# Altium schematic symbol library Interface USB.SchLib: 91 symbols (part 3 of 12)
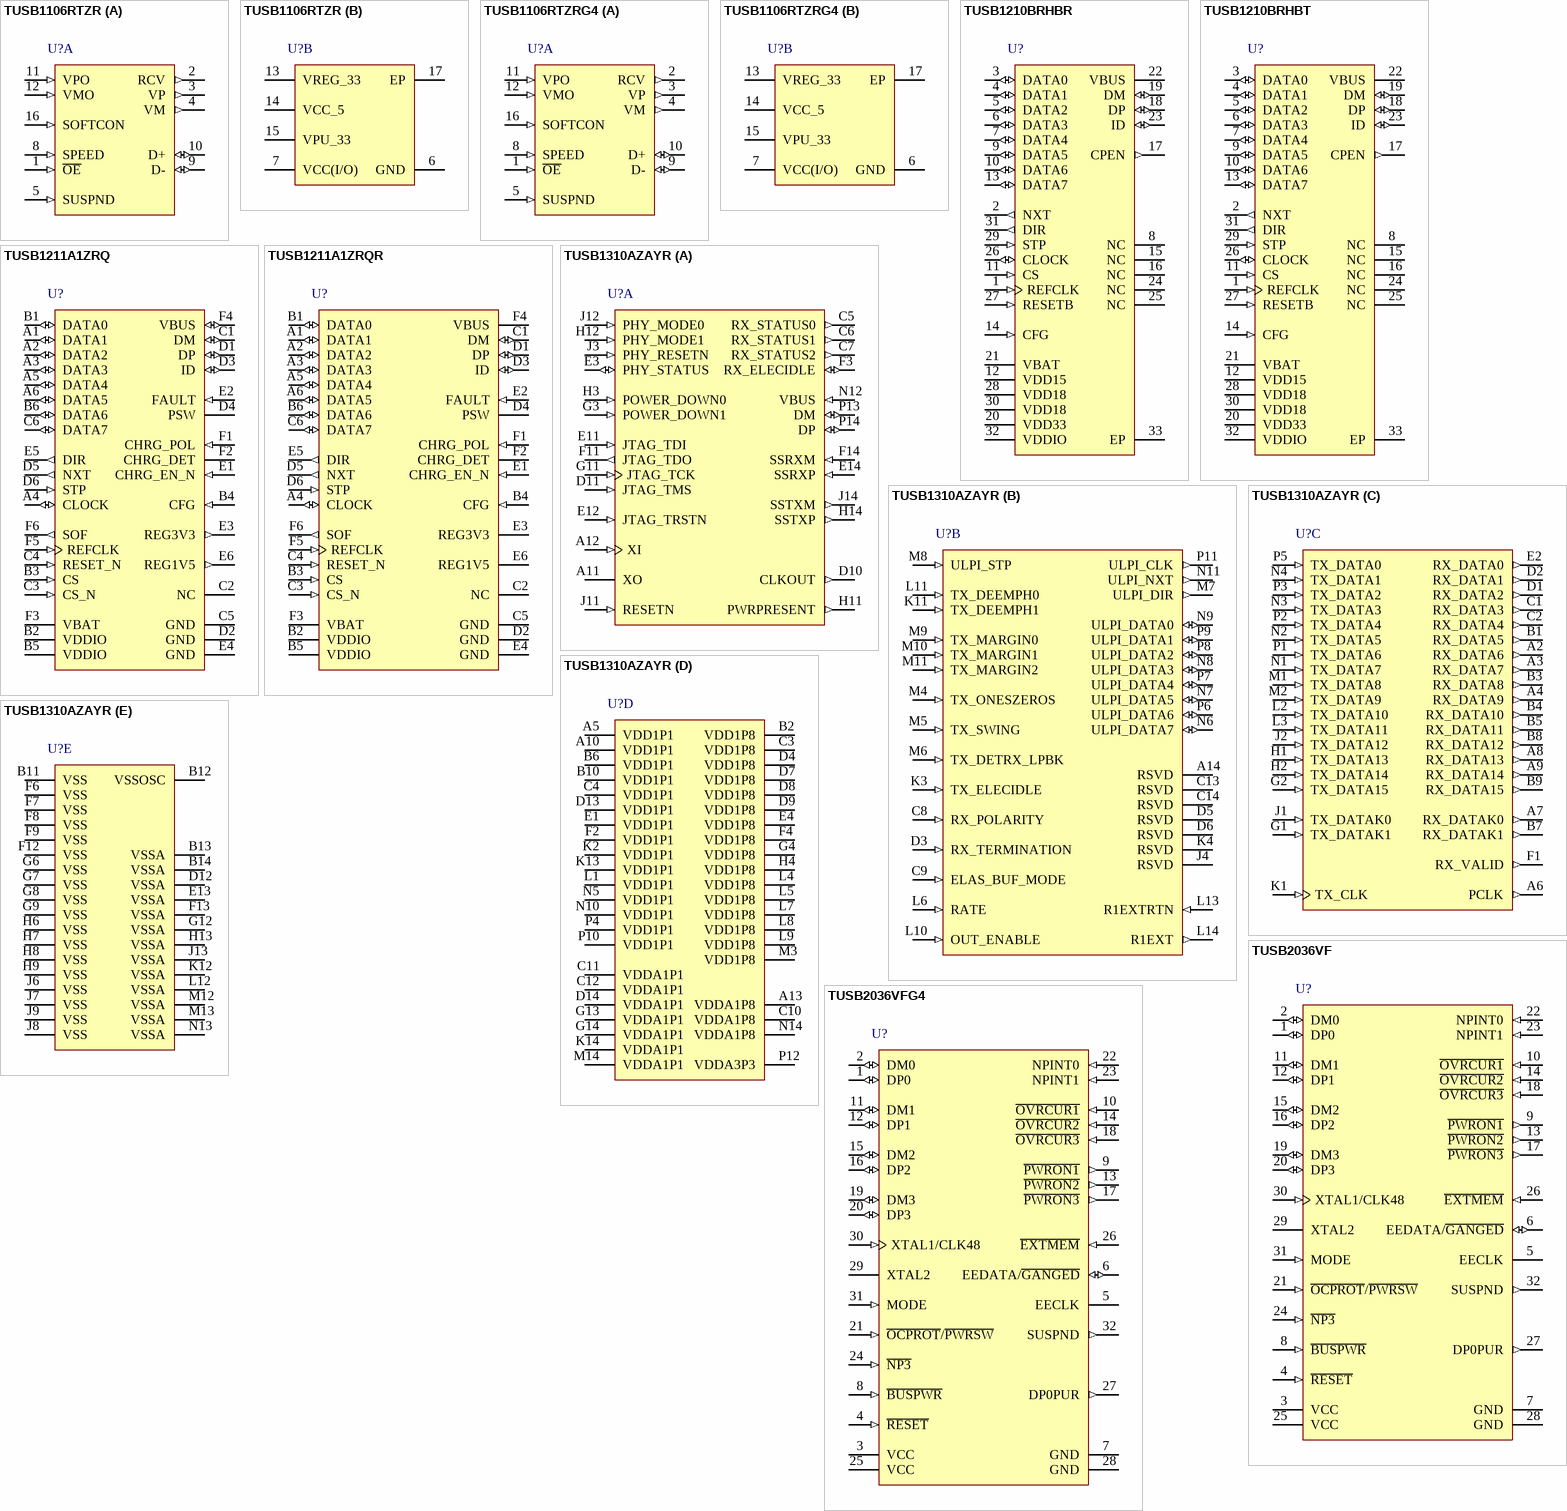
[diagram p10: symbols TUSB1106RTZR to TUSB2036VFG4]

## TUSB1310AZAYR
designator U?
SuperSpeed USB Transceiver with PIPE3 and ULPI Interfaces, SuperSpeed, PIPE3 and ULPI, +/-0.5V, -40 to 85 degC, 175-Pin NFBGA (ZAY), Green (RoHS & no Sb/Br); PartNumber: TUSB1310AZAYR; Manufacturer: Texas Instruments; ESD HBM(kV): +/-0.5; DatasheetVersion: SLLSE32D; PackageVersion: revC, Sep-2010; PackageReference: ZAY175; PackageDescription: 175-Ball Plastic Ball Grid Array, 12 x 12 mm Body, 0.8 mm Pitch, Pb-Free; Mounting Technology: Surface Mount; Eco-Plan: Green (RoHS & no Sb/Br); SubFamily: USB Transceiver; USB Speed: SuperSpeed; ComponentLink1Description: Datasheet; ComponentLink1URL: http://www.ti.com/general/docs/lit/getliterature.tsp?genericPartNumber=TUSB1310A&fileType=pdf; ComponentLink2Description: Package Specification; ComponentLink2URL: http://www.ti.com/lit/ml/mpbg948a/mpbg948a.pdf
footprint ZAY175 (BGA, 175-Leads, Body 12x12mm, Pitch 0.8mm)
part A pins: A11 XO "Crystal output. If a 1.8-V clock input is connected to XI, XO must be left open", A12 XI (in) "Crystal Input. This pin is the clock reference input for the TUSB1310A. The supports either a crystal unit, or a 1.8-V clock input. Frequencies supported are 20, 25, 30, or 40 MHz", C5 RX_STATUS0 (out) "Encodes receiver status and error codes for the received data stream when receiving data.[see datasheet]", C6 RX_STATUS1 (out) "Encodes receiver status and error codes for the received data stream when receiving data.[see datasheet]", C7 RX_STATUS2 (out) "Encodes receiver status and error codes for the received data stream when receiving data.[see datasheet]", D10 CLKOUT (out) "OOBCLK is driven in U3 mode", D11 JTAG_TMS (in) "JTAG test mode select", E3 PHY_STATUS (io) "Selects PIPE 0.  16-bit PIPE SDR mode.  Must be 0 at reset", E11 JTAG_TDI (in) "JTAG test data input", E12 JTAG_TRSTN (in) "JTAG test asynchronous reset. Active Low", E14 SSRXP (in) "USB SuperSpeed receiver differential pair", F3 RX_ELECIDLE (io) "Active High. While de-asserted with the PHY in P0, P1, P2, or P3, indicates detection of LFPS.", F11 JTAG_TDO (out) "JTAG test data output", F14 SSRXM (in) "USB SuperSpeed receiver differential pair", G3 POWER_DOWN1 (in) "Power up and down the transceiver power states.[see datasheet]", G11 JTAG_TCK (in) "JTAG test clock", H3 POWER_DOWN0 (in) "Power up and down the transceiver power states.[see datasheet]", H11 PWRPRESENT (out) "Indicates the presence of VBUS.", H12 PHY_MODE1 (in) "Must be set to 0. Operates as USB 3.0 transceiver.", H14 SSTXP (out) "USB SuperSpeed transmitter differential pair", J3 PHY_RESETN (in) "Active Low. Resets the transmitter and receiver. This signal is asynchronous.", J11 RESETN (in) "Active Low. Resets the transmitter and receiver. This signal is asynchronous", J12 PHY_MODE0 (in) "Must be set to 1. Operates as USB 3.0 transceiver.", J14 SSTXM (out) "USB SuperSpeed transmitter differential pair", N12 VBUS (in) "USB VBUS pin Connected through an external voltage divider", P13 DM (io) "USB non-SuperSpeed differential pair", P14 DP (io) "USB non-SuperSpeed differential pair"
part B pins: A14 RSVD "Must be left open", C8 RX_POLARITY (in) "Active High. Tells PHY to do a polarity inversion on the received data. Inverted data show up on RX_DATA15-0 within 20 PCLK clocks after RX_POLARITY is asserted. 0 PHY does no polarity inversion. 1 PHY does polarity (See Datasheet)", C9 ELAS_BUF_MODE (in) "Selects elasticity buffer operating mode.0 Nominal half full buffer mode.1 Nominal empty buffer mode", C13 RSVD "Must be left open.", C14 RSVD "Must be left open.", D3 RX_TERMINATION (in) "Controls presence of receiver terminations.0 Terminations removed.1 Terminations present", D5 RSVD "Must be left open.", D6 RSVD "Must be left open.", J4 RSVD "Must be left open.", K3 TX_ELECIDLE (in) "Active High. Forces TX output to electrical idle depending on the power state.", K4 RSVD "Must be left open.", K11 TX_DEEMPH1 (in) "Selects transmitter de-emphasis.When the MAC changes,the TUSB1310A starts to transmit with the new setting within 128ns.[see datasheet]", L6 RATE (in) "Controls the link signaling rate.The RATE is always 1.", L10 OUT_ENABLE (in) "Active High. This can be connected to a 1.8-V power on reset signal on the PCB in order to avoid static current and signal contention during power up. OUT_ENABLE I L10 0: Disable all driver outputs while IO powers are (See Datasheet)", L11 TX_DEEMPH0 (in) "Selects transmitter de-emphasis.When the MAC changes,the TUSB1310A starts to transmit with the new setting within 128ns.[see datasheet]", L13 R1EXTRTN (in) "R1 ground reference. This pin is not connected to board ground.", L14 R1EXT (out) "High precision  external resistor used for calibration. The R1 value shall be 10 kohm +/-1% accuracy", M4 TX_ONESZEROS (in) "Active High. Used only when transmitting USB compliance pat-terns CP7 or CP8. Causes the transmitter to transmit an alternating sequence of 50 - 250 ones and 50 - 250 zeros -regardless of the state of the TX_DATA interface.", M5 TX_SWING (in) "Controls transmitter voltage swing level.0 Full swing.1 Half swing.", M6 TX_DETRX_LPBK (in) "Active High. Used to tell the PHY to begin a receiver detection operation or to begin loopback.", M7 ULPI_DIR (out) "Controls the direction of the ULPI_DATA bus.0 ULPI_DATA lines are inputs.1 ULPI_DATA lines are outputs", M8 ULPI_STP (in) "Active High. The Link must assert ULPI_STP to signal the end of a USB transmit packet or a register write operation. The ULPI_STP signal must be asserted in the cycle after the last data byte is presented on the bus. The (See Datasheet)", M9 TX_MARGIN0 (in) "Selects transmitter voltage levels [see datasheet ]", M10 TX_MARGIN1 (in) "Selects transmitter voltage levels [see datasheet ]", M11 TX_MARGIN2 (in) "Selects transmitter voltage levels [see datasheet ]", N6 ULPI_DATA7 (io) "Data bus. Driven to 00h by the Link when the ULPI bus is idle.8-bit data timed on rising edge of ULPI_CLK", N7 ULPI_DATA5 (io) "Data bus. Driven to 00h by the Link when the ULPI bus is idle.8-bit data timed on rising edge of ULPI_CLK", N8 ULPI_DATA3 (io) "Data bus. Driven to 00h by the Link when the ULPI bus is idle.8-bit data timed on rising edge of ULPI_CLK", N9 ULPI_DATA0 (io) "Data bus. Driven to 00h by the Link when the ULPI bus is idle. 8-bit data timed on rising edge of ULPI_CLK", N11 ULPI_NXT (out) "Active High. The PHY asserts ULPI_NXT to throttle all data types, except register read data and the RX_CMD. The PHY also asserts ULPI_NXT and ULPI_DIR simultaneously to indicate USB receive activity, if ULPI_DIR was (See Datasheet)", P6 ULPI_DATA6 (io) "Data bus. Driven to 00h by the Link when the ULPI bus is idle.8-bit data timed on rising edge of ULPI_CLK", P7 ULPI_DATA4 (io) "Data bus. Driven to 00h by the Link when the ULPI bus is idle.8-bit data timed on rising edge of ULPI_CLK", P8 ULPI_DATA2 (io) "Data bus. Driven to 00h by the Link when the ULPI bus is idle.8-bit data timed on rising edge of ULPI_CLK", P9 ULPI_DATA1 (io) "Data bus. Driven to 00h by the Link when the ULPI bus is idle.8-bit data timed on rising edge of ULPI_CLK", P11 ULPI_CLK (out) "60-MHZ interface clock.All ULPI signals are synchronous to ULPI_CLK.The ULPI_CLK is always a 60-MHZ output of the TUSB1310A.In low power mode,the ULPI_CLK is not dricen"
part C pins: A2 RX_DATA6 (out) "Parallel USB SuperSpeed data output bus.The 16 bits represent 2 symbols of receive data where RX_DATA7-0 is the first symbol received, and RX_DATA15-8 is the second.", A3 RX_DATA7 (out) "Parallel USB SuperSpeed data output bus.The 16 bits represent 2 symbols of receive data where RX_DATA7-0 is the first symbol received, and RX_DATA15-8 is the second.", A4 RX_DATA9 (out) "Parallel USB SuperSpeed data output bus.The 16 bits represent 2 symbols of receive data where RX_DATA7-0 is the first symbol received, and RX_DATA15-8 is the second.", A6 PCLK (out) "Parallel interface data clock. All data movement across the parallel PIPE is synchronous to this clock. This clock operates at 250 MHz.The rising edge of the clock is the reference for all signals.", A7 RX_DATAK0 (out) "Data/Control for the symbols of receive data. RX_DATAK0 corresponds to the low-byte of RX_DATA, RX_DATAK1 to the upper byte. A value of zero indicates a data byte; a value of 1 indicates a control byte.", A8 RX_DATA13 (out) "Parallel USB SuperSpeed data output bus.The 16 bits represent 2 symbols of receive data where RX_DATA7-0 is the first symbol received, and RX_DATA15-8 is the second.", A9 RX_DATA14 (out) "Parallel USB SuperSpeed data output bus.The 16 bits represent 2 symbols of receive data where RX_DATA7-0 is the first symbol received, and RX_DATA15-8 is the second.", B1 RX_DATA5 (out) "Parallel USB SuperSpeed data output bus.The 16 bits represent 2 symbols of receive data where RX_DATA7-0 is the first symbol received, and RX_DATA15-8 is the second.", B3 RX_DATA8 (out) "Parallel USB SuperSpeed data output bus.The 16 bits represent 2 symbols of receive data where RX_DATA7-0 is the first symbol received, and RX_DATA15-8 is the second.", B4 RX_DATA10 (out) "Parallel USB SuperSpeed data output bus.The 16 bits represent 2 symbols of receive data where RX_DATA7-0 is the first symbol received, and RX_DATA15-8 is the second.", B5 RX_DATA11 (out) "Parallel USB SuperSpeed data output bus.The 16 bits represent 2 symbols of receive data where RX_DATA7-0 is the first symbol received, and RX_DATA15-8 is the second.", B7 RX_DATAK1 (out) "Data/Control for the symbols of receive data. RX_DATAK0 corresponds to the low-byte of RX_DATA, RX_DATAK1 to the upper byte. [see datasheet]", B8 RX_DATA12 (out) "Parallel USB SuperSpeed data output bus.The 16 bits represent 2 symbols of receive data where RX_DATA7-0 is the first symbol received, and RX_DATA15-8 is the second.", B9 RX_DATA15 (out) "Parallel USB SuperSpeed data output bus.The 16 bits represent 2 symbols of receive data where RX_DATA7-0 is the first symbol received, and RX_DATA15-8 is the second.", C1 RX_DATA3 (out) "Parallel USB SuperSpeed data output bus.The 16 bits represent 2 symbols of receive data where RX_DATA7-0 is the first symbol received, and RX_DATA15-8 is the second.", C2 RX_DATA4 (out) "Parallel USB SuperSpeed data output bus.The 16 bits represent 2 symbols of receive data where RX_DATA7-0 is the first symbol received, and RX_DATA15-8 is the second.", D1 RX_DATA2 (out) "Parallel USB SuperSpeed data output bus.The 16 bits represent 2 symbols of receive data where RX_DATA7-0 is the first symbol received, and RX_DATA15-8 is the second.", D2 RX_DATA1 (out) "Parallel USB SuperSpeed data output bus.The 16 bits represent 2 symbols of receive data where RX_DATA7-0 is the first symbol received, and RX_DATA15-8 is the second.", E2 RX_DATA0 (out) "Parallel USB SuperSpeed data output bus.The 16 bits represent 2 symbols of receive data where RX_DATA7-0 is the first symbol received, and RX_DATA15-8 is the second.", F1 RX_VALID (out) "Active High. Indicates symbol lock and valid data on RX_DATA and RX_DATAK.", G1 TX_DATAK1 (in) "Data/Control for the symbols of transmit data. TX_DATAK0 corresponds to the low-byte of TX_DATA, TX_DATAK1 to the upper byte.", G2 TX_DATA15 (in) "Parallel USB SuperSpeed data input bus.The 16 bits represent 2 symbols of transmit data where TX_DATA7-0 is the first symbol to be transmitted, and TX_DATA15-8 is the second symbol.", H1 TX_DATA13 (in) "Parallel USB SuperSpeed data input bus.The 16 bits represent 2 symbols of transmit data where TX_DATA7-0 is the first symbol to be transmitted, and TX_DATA15-8 is the second symbol.", H2 TX_DATA14 (in) "Parallel USB SuperSpeed data input bus.The 16 bits represent 2 symbols of transmit data where TX_DATA7-0 is the first symbol to be transmitted, and TX_DATA15-8 is the second symbol.", J1 TX_DATAK0 (in) "Data/Control for the symbols of transmit data. TX_DATAK0 corresponds to the low-byte of TX_DATA, TX_DATAK1 to the upper byte.", J2 TX_DATA12 (in) "Parallel USB SuperSpeed data input bus.The 16 bits represent 2 symbols of transmit data where TX_DATA7-0 is the first symbol to be transmitted, and TX_DATA15-8 is the second symbol.", K1 TX_CLK (in) "TX_DATA and TX_DATAK clock for source synchronous PIPE.This clock frequency is the same as PCLK frequency. The rising edge of the clock is the reference for all signals.", L2 TX_DATA10 (in) "Parallel USB SuperSpeed data input bus.The 16 bits represent 2 symbols of transmit data where TX_DATA7-0 is the first symbol to be transmitted, and TX_DATA15-8 is the second symbol.", L3 TX_DATA11 (in) "Parallel USB SuperSpeed data input bus.The 16 bits represent 2 symbols of transmit data where TX_DATA7-0 is the first symbol to be transmitted, and TX_DATA15-8 is the second symbol.", M1 TX_DATA8 (in) "Parallel USB SuperSpeed data input bus.The 16 bits represent 2 symbols of transmit data where TX_DATA7-0 is the first symbol to be transmitted, and TX_DATA15-8 is the second symbol.", M2 TX_DATA9 (in) "Parallel USB SuperSpeed data input bus.The 16 bits represent 2 symbols of transmit data where TX_DATA7-0 is the first symbol to be transmitted, and TX_DATA15-8 is the second symbol.", N1 TX_DATA7 (in) "Parallel USB SuperSpeed data input bus.The 16 bits represent 2 symbols of transmit data where TX_DATA7-0 is the first symbol to be transmitted, and TX_DATA15-8 is the second symbol.", N2 TX_DATA5 (in) "Parallel USB SuperSpeed data input bus.The 16 bits represent 2 symbols of transmit data where TX_DATA7-0 is the first symbol to be transmitted, and TX_DATA15-8 is the second symbol.", N3 TX_DATA3 (in) "Parallel USB SuperSpeed data input bus.The 16 bits represent 2 symbols of transmit data where TX_DATA7-0 is the first symbol to be transmitted, and TX_DATA15-8 is the second symbol.", N4 TX_DATA1 (in) "Parallel USB SuperSpeed data input bus.The 16 bits represent 2 symbols of transmit data where TX_DATA7-0 is the first symbol to be transmitted, and TX_DATA15-8 is the second symbol.", P1 TX_DATA6 (in) "Parallel USB SuperSpeed data input bus.The 16 bits represent 2 symbols of transmit data where TX_DATA7-0 is the first symbol to be transmitted, and TX_DATA15-8 is the second symbol.", P2 TX_DATA4 (in) "Parallel USB SuperSpeed data input bus.The 16 bits represent 2 symbols of transmit data where TX_DATA7-0 is the first symbol to be transmitted, and TX_DATA15-8 is the second symbol.", P3 TX_DATA2 (in) "Parallel USB SuperSpeed data input bus.The 16 bits represent 2 symbols of transmit data where TX_DATA7-0 is the first symbol to be transmitted, and TX_DATA15-8 is the second symbol.", P5 TX_DATA0 (in) "Parallel USB SuperSpeed data input bus.The 16 bits represent 2 symbols of transmit data where TX_DATA7-0 is the first symbol to be transmitted, and TX_DATA15-8 is the second symbol."
part D pins: A5 VDD1P1 (power) "Digital 1.1-V power supply", A10 VDD1P1 (power) "Digital 1.1-V power supply", A13 VDDA1P8 (power) "Analog 1.8-V power supply", B2 VDD1P8 (power) "Digital IO 1.8-V power supply", B6 VDD1P1 (power) "Digital 1.1-V power supply", B10 VDD1P1 (power) "Digital 1.1-V power supply", C3 VDD1P8 (power) "Digital IO 1.8-V power supply", C4 VDD1P1 (power) "Digital 1.1-V power supply", C10 VDDA1P8 (power) "Analog 1.8-V power supply", C11 VDDA1P1 (power) "Analog 1.1-V power supply", C12 VDDA1P1 (power) "Analog 1.1-V power supply", D4 VDD1P8 (power) "Digital IO 1.8-V power supply", D7 VDD1P8 (power) "Digital IO 1.8-V power supply", D8 VDD1P8 (power) "Digital IO 1.8-V power supply", D9 VDD1P8 (power) "Digital IO 1.8-V power supply", D13 VDD1P1 (power) "Digital 1.1-V power supply", D14 VDDA1P1 (power) "Analog 1.1-V power supply", E1 VDD1P1 (power) "Digital 1.1-V power supply", E4 VDD1P8 (power) "Digital IO 1.8-V power supply", F2 VDD1P1 (power) "Digital 1.1-V power supply", F4 VDD1P8 (power) "Digital IO 1.8-V power supply", G4 VDD1P8 (power) "Digital IO 1.8-V power supply", G13 VDDA1P1 (power) "Analog 1.1-V power supply", G14 VDDA1P1 (power) "Analog 1.1-V power supply", H4 VDD1P8 (power) "Digital IO 1.8-V power supply", K2 VDD1P1 (power) "Digital 1.1-V power supply", K13 VDD1P1 (power) "Digital 1.1-V power supply", K14 VDDA1P1 (power) "Analog 1.1-V power supply", L1 VDD1P1 (power) "Digital 1.1-V power supply", L4 VDD1P8 (power) "Digital IO 1.8-V power supply", L5 VDD1P8 (power) "Digital IO 1.8-V power supply", L7 VDD1P8 (power) "Digital IO 1.8-V power supply", L8 VDD1P8 (power) "Digital IO 1.8-V power supply", L9 VDD1P8 (power) "Digital IO 1.8-V power supply", M3 VDD1P8 (power) "Digital IO 1.8-V power supply", M14 VDDA1P1 (power) "Needs a 1-uF bypass capacitor", N5 VDD1P1 (power) "Digital 1.1-V power suppl", N10 VDD1P1 (power) "Digital 1.1-V power supply", N14 VDDA1P8 (power) "Analog 1.8-V power supply", P4 VDD1P1 (power) "Digital 1.1-V power supply", P10 VDD1P1 (power) "Digital 1.1-V power supply", P12 VDDA3P3 (power) "Analog 3.3-V power supply"
part E pins: B11 VSS (power) "Digital ground", B12 VSSOSC (power) "Oscillator ground.If using a crystal, this should not be connected to PCB ground plane.See Chapter 5 for guidelines.If using an oscillator, this should be connected to PCB ground", B13 VSSA (power) "Analog ground", B14 VSSA (power) "Analog ground", D12 VSSA (power) "Analog ground", E13 VSSA (power) "Analog ground", F6 VSS (power) "Digital ground", F7 VSS (power) "Digital ground", F8 VSS (power) "Digital ground", F9 VSS (power) "Digital ground", F12 VSS (power) "Digital ground", F13 VSSA (power) "Analog ground", G6 VSS (power) "Digital ground", G7 VSS (power) "Digital ground", G8 VSS (power) "Digital ground", G9 VSS (power) "Digital ground", G12 VSSA (power) "Analog ground", H6 VSS (power) "Digital ground", H7 VSS (power) "Digital ground", H8 VSS (power) "Digital ground", H9 VSS (power) "Digital ground", H13 VSSA (power) "Analog ground", J6 VSS (power) "Digital ground", J7 VSS (power) "Digital ground", J8 VSS (power) "Digital ground", J9 VSS (power) "Digital ground", J13 VSSA (power) "Analog ground", K12 VSSA (power) "Analog ground", L12 VSSA (power) "Analog ground", M12 VSSA (power) "Analog ground", M13 VSSA (power) "Analog ground", N13 VSSA (power) "Analog ground"

## TUSB2036VF
designator U?
2 / 3-Port Hub for USB with Optional Serial EEPROM Interface, 3.3V, 0 to 70 degC, 32-Pin LQFP (VF), Green (RoHS & no Sb/Br); PartNumber: TUSB2036VF; Manufacturer: Texas Instruments; SubFamily: USB Hub Controller; USB Speed: Full; USB Full Speed: True; Supply Voltage(s)(V): 3.3; DatasheetVersion: SLLS372E; PackageVersion: revD, Apr-2000; PackageReference: VF32; PackageDescription: 32-Pin Plastic Quad Flatpack, 7 x 7 mm Body, 0.8 mm Pitch; Mounting Technology: Surface Mount; Eco-Plan: Green (RoHS & no Sb/Br); Integrated MCU Architecture: N/A; ComponentLink1Description: Datasheet; ComponentLink1URL: http://www.ti.com/general/docs/lit/getliterature.tsp?genericPartNumber=TUSB2036&fileType=pdf; ComponentLink2Description: Package Specification; ComponentLink2URL: http://www.ti.com/litv/pdf/mtqf002b
footprint VF32_N (Thin QFP, 32-Leads, Body 7x7mm, Pitch 0.8mm, IPC Medium Density)
footprint VF32_L (Thin QFP, 32-Leads, Body 7x7mm, Pitch 0.8mm, IPC High Density)
footprint VF32_M (Thin QFP, 32-Leads, Body 7x7mm, Pitch 0.8mm, IPC Low Density)
pins: 1 DP0 (io) "Root port USB differential data plus. DP0 paired with DM0 constitutes the upstream USB port.", 2 DM0 (io) "Root port USB differential data minus. DM0 paired with DP0 constitutes the upstream USB port.", 3 VCC (power) "3.3-V supply voltage", 4 ~{RESET} (in) "R\E\S\E\T\ is an active low TTL input with hysteresis and must be asserted at power up. When R\E\S\E\T\ is asserted, all logic is initialized. Generally, a reset with a pulse width between 100 us and 1 ms is recommended (See Datasheet)", 5 EECLK (hiz) "EEPROM serial clock. When EXTMEM is high, the EEPROM interface is disabled. The EECLK terminal is disabled and must be left floating (unconnected). When EXTMEM is low, EECLK acts as a 3-state serial clock output to the (See Datasheet)", 6 EEDATA/~{GANGED} (io) "EEPROM serial data/power-management mode indicator. When E\X\T\M\E\M\ is high, EEDATA/G\A\N\G\E\D\ selects between ganged or per-port power overcurrent detection for the downstream ports. When E\X\T\M\E\M\ is (See Datasheet)", 7 GND (power) "GND terminals must be tied to ground for proper operation", 8 ~{BUSPWR} (in) "Power source indicator. B\U\S\P\W\R\ is an active-low input that indicates whether the downstream ports source their power from the USB cable or a local power supply. For the bus-power mode, this terminal must be pulled low, (See Datasheet)", 9 ~{PWRON1} (out) "Power-on/-off control signals. P\W\R\O\N\1\-P\W\R\O\N\3\ are active low, push-pull outputs that enables the external power switch device. Push-pull outputs eliminate the pullup resistors which open-drain outputs require. (See Datasheet)", 10 ~{OVRCUR1} (in) "Overcurrent input. O\V\R\C\U\R\1\ - O\V\R\C\U\R\3\ are active low. For per-port overcurrent detection, one overcurrent input is available for each of the three downstream ports. In the ganged mode, any O\V\R\C\U\R\ input may (See Datasheet)", 11 DM1 (io) "USB differential data minus. DM1-DM3 paired with DP1-DP3 support up to four downstream USB ports.", 12 DP1 (io) "USB differential data plus. DP1-DP3 paired with DM1-DM3 support up to four downstream USB ports.", 13 ~{PWRON2} (out) "Power-on/-off control signals. P\W\R\O\N\1\-P\W\R\O\N\3\ are active low, push-pull outputs that enables the external power switch device. Push-pull outputs eliminate the pullup resistors which open-drain outputs require. (See Datasheet)", 14 ~{OVRCUR2} (in) "Overcurrent input. O\V\R\C\U\R\1\ - O\V\R\C\U\R\3\ are active low. For per-port overcurrent detection, one overcurrent input is available for each of the three downstream ports. In the ganged mode, any O\V\R\C\U\R\ input may (See Datasheet)", 15 DM2 (io) "USB differential data minus. DM1-DM3 paired with DP1-DP3 support up to four downstream USB ports.", 16 DP2 (io) "USB differential data plus. DP1-DP3 paired with DM1-DM3 support up to four downstream USB ports.", 17 ~{PWRON3} (out) "Power-on/-off control signals. P\W\R\O\N\1\-P\W\R\O\N\3\ are active low, push-pull outputs that enables the external power switch device. Push-pull outputs eliminate the pullup resistors which open-drain outputs require. (See Datasheet)", 18 ~{OVRCUR3} (in) "Overcurrent input. O\V\R\C\U\R\1\ - O\V\R\C\U\R\3\ are active low. For per-port overcurrent detection, one overcurrent input is available for each of the three downstream ports. In the ganged mode, any O\V\R\C\U\R\ input may (See Datasheet)", 19 DM3 (io) "USB differential data minus. DM1-DM3 paired with DP1-DP3 support up to four downstream USB ports.", 20 DP3 (io) "USB differential data plus. DP1-DP3 paired with DM1-DM3 support up to four downstream USB ports.", 21 ~{OCPROT}/~{PWRSW} (in) "Overcurrent Protection for bus-powered hub (active low). /Power Switching for self-powered hub (active low). The terminal has a different meaning for the bus or self-powered hub. If the terminal is logic high the internal (See Datasheet)", 22 NPINT0 (in) "Number of ports internal to hub system, which are permanently attached (see Table 1).", 23 NPINT1 (in) "Number of ports internal to hub system, which are permanently attached (see Table 1).", 24 ~{NP3} (in) "Number of ports is 3. Active low input. A logic 0 configures the system to use 3 ports. A logic 1 configures the system to use 2 ports.", 25 VCC (power) "3.3-V supply voltage", 26 ~{EXTMEM} (in) "When E\X\T\M\E\M\ is high, the serial EEPROM interface of the device is disabled. When E\X\T\M\E\M\ is low, terminals 5 and 6 are configured as the clock and data terminals of the serial EEPROM interface, respectively.", 27 DP0PUR (out) "Pullup resistor connection. When a system reset happens (R\E\S\E\T\ being driven to low, but not USB reset) or any logic level change on B\U\S\P\W\R\ terminal, DP0PUR output is inactive (floating) until the internal counter (See Datasheet)", 28 GND (power) "GND terminals must be tied to ground for proper operation.", 29 XTAL2 "Crystal 2. XTAL2 is a 6-MHz crystal output. This terminal must be left open when using an oscillator", 30 XTAL1/CLK48 (in) "Crystal 1/48-MHz clock input. When MODE is low, XTAL1/CLK48 is a 6-MHz crystal input with 50% duty cycle. An internal APLL generates the 48-MHz and 12-MHz clocks used internally by the ASIC logic. When MODE is (See Datasheet)", 31 MODE (in) "Mode select. When MODE is low, the APLL output clock is selected as the clock source to drive the internal core of the device and 6-MHz crystal or oscillator can be used. When MODE is high, the clock on XTAL1/CLK48 is (See Datasheet)", 32 SUSPND (out) "Suspend status. SUSPND is an active high output available for external logic power-down operations. During the suspend mode, SUSPND is high. SUSPND is low for normal operation."

## TUSB2036VFG4
designator U?
2 / 3-Port Hub for USB with Optional Serial EEPROM Interface, 3.3V, 0 to 70 degC, 32-Pin LQFP (VF), Green (RoHS & no Sb/Br); PartNumber: TUSB2036VFG4; Manufacturer: Texas Instruments; SubFamily: USB Hub Controller; USB Speed: Full; USB Full Speed: True; Supply Voltage(s)(V): 3.3; DatasheetVersion: SLLS372E; PackageVersion: revD, Apr-2000; PackageReference: VF32; PackageDescription: 32-Pin Plastic Quad Flatpack, 7 x 7 mm Body, 0.8 mm Pitch; Mounting Technology: Surface Mount; Eco-Plan: Green (RoHS & no Sb/Br); Integrated MCU Architecture: N/A; ComponentLink1Description: Datasheet; ComponentLink1URL: http://www.ti.com/general/docs/lit/getliterature.tsp?genericPartNumber=TUSB2036&fileType=pdf; ComponentLink2Description: Package Specification; ComponentLink2URL: http://www.ti.com/litv/pdf/mtqf002b
footprint VF32_N (Thin QFP, 32-Leads, Body 7x7mm, Pitch 0.8mm, IPC Medium Density)
footprint VF32_L (Thin QFP, 32-Leads, Body 7x7mm, Pitch 0.8mm, IPC High Density)
footprint VF32_M (Thin QFP, 32-Leads, Body 7x7mm, Pitch 0.8mm, IPC Low Density)
pins: 1 DP0 (io) "Root port USB differential data plus. DP0 paired with DM0 constitutes the upstream USB port.", 2 DM0 (io) "Root port USB differential data minus. DM0 paired with DP0 constitutes the upstream USB port.", 3 VCC (power) "3.3-V supply voltage", 4 ~{RESET} (in) "R\E\S\E\T\ is an active low TTL input with hysteresis and must be asserted at power up. When R\E\S\E\T\ is asserted, all logic is initialized. Generally, a reset with a pulse width between 100 us and 1 ms is recommended (See Datasheet)", 5 EECLK (hiz) "EEPROM serial clock. When EXTMEM is high, the EEPROM interface is disabled. The EECLK terminal is disabled and must be left floating (unconnected). When EXTMEM is low, EECLK acts as a 3-state serial clock output to the (See Datasheet)", 6 EEDATA/~{GANGED} (io) "EEPROM serial data/power-management mode indicator. When E\X\T\M\E\M\ is high, EEDATA/G\A\N\G\E\D\ selects between ganged or per-port power overcurrent detection for the downstream ports. When E\X\T\M\E\M\ is (See Datasheet)", 7 GND (power) "GND terminals must be tied to ground for proper operation", 8 ~{BUSPWR} (in) "Power source indicator. B\U\S\P\W\R\ is an active-low input that indicates whether the downstream ports source their power from the USB cable or a local power supply. For the bus-power mode, this terminal must be pulled low, (See Datasheet)", 9 ~{PWRON1} (out) "Power-on/-off control signals. P\W\R\O\N\1\-P\W\R\O\N\3\ are active low, push-pull outputs that enables the external power switch device. Push-pull outputs eliminate the pullup resistors which open-drain outputs require. (See Datasheet)", 10 ~{OVRCUR1} (in) "Overcurrent input. O\V\R\C\U\R\1\ - O\V\R\C\U\R\3\ are active low. For per-port overcurrent detection, one overcurrent input is available for each of the three downstream ports. In the ganged mode, any O\V\R\C\U\R\ input may (See Datasheet)", 11 DM1 (io) "USB differential data minus. DM1-DM3 paired with DP1-DP3 support up to four downstream USB ports.", 12 DP1 (io) "USB differential data plus. DP1-DP3 paired with DM1-DM3 support up to four downstream USB ports.", 13 ~{PWRON2} (out) "Power-on/-off control signals. P\W\R\O\N\1\-P\W\R\O\N\3\ are active low, push-pull outputs that enables the external power switch device. Push-pull outputs eliminate the pullup resistors which open-drain outputs require. (See Datasheet)", 14 ~{OVRCUR2} (in) "Overcurrent input. O\V\R\C\U\R\1\ - O\V\R\C\U\R\3\ are active low. For per-port overcurrent detection, one overcurrent input is available for each of the three downstream ports. In the ganged mode, any O\V\R\C\U\R\ input may (See Datasheet)", 15 DM2 (io) "USB differential data minus. DM1-DM3 paired with DP1-DP3 support up to four downstream USB ports.", 16 DP2 (io) "USB differential data plus. DP1-DP3 paired with DM1-DM3 support up to four downstream USB ports.", 17 ~{PWRON3} (out) "Power-on/-off control signals. P\W\R\O\N\1\-P\W\R\O\N\3\ are active low, push-pull outputs that enables the external power switch device. Push-pull outputs eliminate the pullup resistors which open-drain outputs require. (See Datasheet)", 18 ~{OVRCUR3} (in) "Overcurrent input. O\V\R\C\U\R\1\ - O\V\R\C\U\R\3\ are active low. For per-port overcurrent detection, one overcurrent input is available for each of the three downstream ports. In the ganged mode, any O\V\R\C\U\R\ input may (See Datasheet)", 19 DM3 (io) "USB differential data minus. DM1-DM3 paired with DP1-DP3 support up to four downstream USB ports.", 20 DP3 (io) "USB differential data plus. DP1-DP3 paired with DM1-DM3 support up to four downstream USB ports.", 21 ~{OCPROT}/~{PWRSW} (in) "Overcurrent Protection for bus-powered hub (active low). /Power Switching for self-powered hub (active low). The terminal has a different meaning for the bus or self-powered hub. If the terminal is logic high the internal (See Datasheet)", 22 NPINT0 (in) "Number of ports internal to hub system, which are permanently attached (see Table 1).", 23 NPINT1 (in) "Number of ports internal to hub system, which are permanently attached (see Table 1).", 24 ~{NP3} (in) "Number of ports is 3. Active low input. A logic 0 configures the system to use 3 ports. A logic 1 configures the system to use 2 ports.", 25 VCC (power) "3.3-V supply voltage", 26 ~{EXTMEM} (in) "When E\X\T\M\E\M\ is high, the serial EEPROM interface of the device is disabled. When E\X\T\M\E\M\ is low, terminals 5 and 6 are configured as the clock and data terminals of the serial EEPROM interface, respectively.", 27 DP0PUR (out) "Pullup resistor connection. When a system reset happens (R\E\S\E\T\ being driven to low, but not USB reset) or any logic level change on B\U\S\P\W\R\ terminal, DP0PUR output is inactive (floating) until the internal counter (See Datasheet)", 28 GND (power) "GND terminals must be tied to ground for proper operation.", 29 XTAL2 "Crystal 2. XTAL2 is a 6-MHz crystal output. This terminal must be left open when using an oscillator", 30 XTAL1/CLK48 (in) "Crystal 1/48-MHz clock input. When MODE is low, XTAL1/CLK48 is a 6-MHz crystal input with 50% duty cycle. An internal APLL generates the 48-MHz and 12-MHz clocks used internally by the ASIC logic. When MODE is (See Datasheet)", 31 MODE (in) "Mode select. When MODE is low, the APLL output clock is selected as the clock source to drive the internal core of the device and 6-MHz crystal or oscillator can be used. When MODE is high, the clock on XTAL1/CLK48 is (See Datasheet)", 32 SUSPND (out) "Suspend status. SUSPND is an active high output available for external logic power-down operations. During the suspend mode, SUSPND is high. SUSPND is low for normal operation."

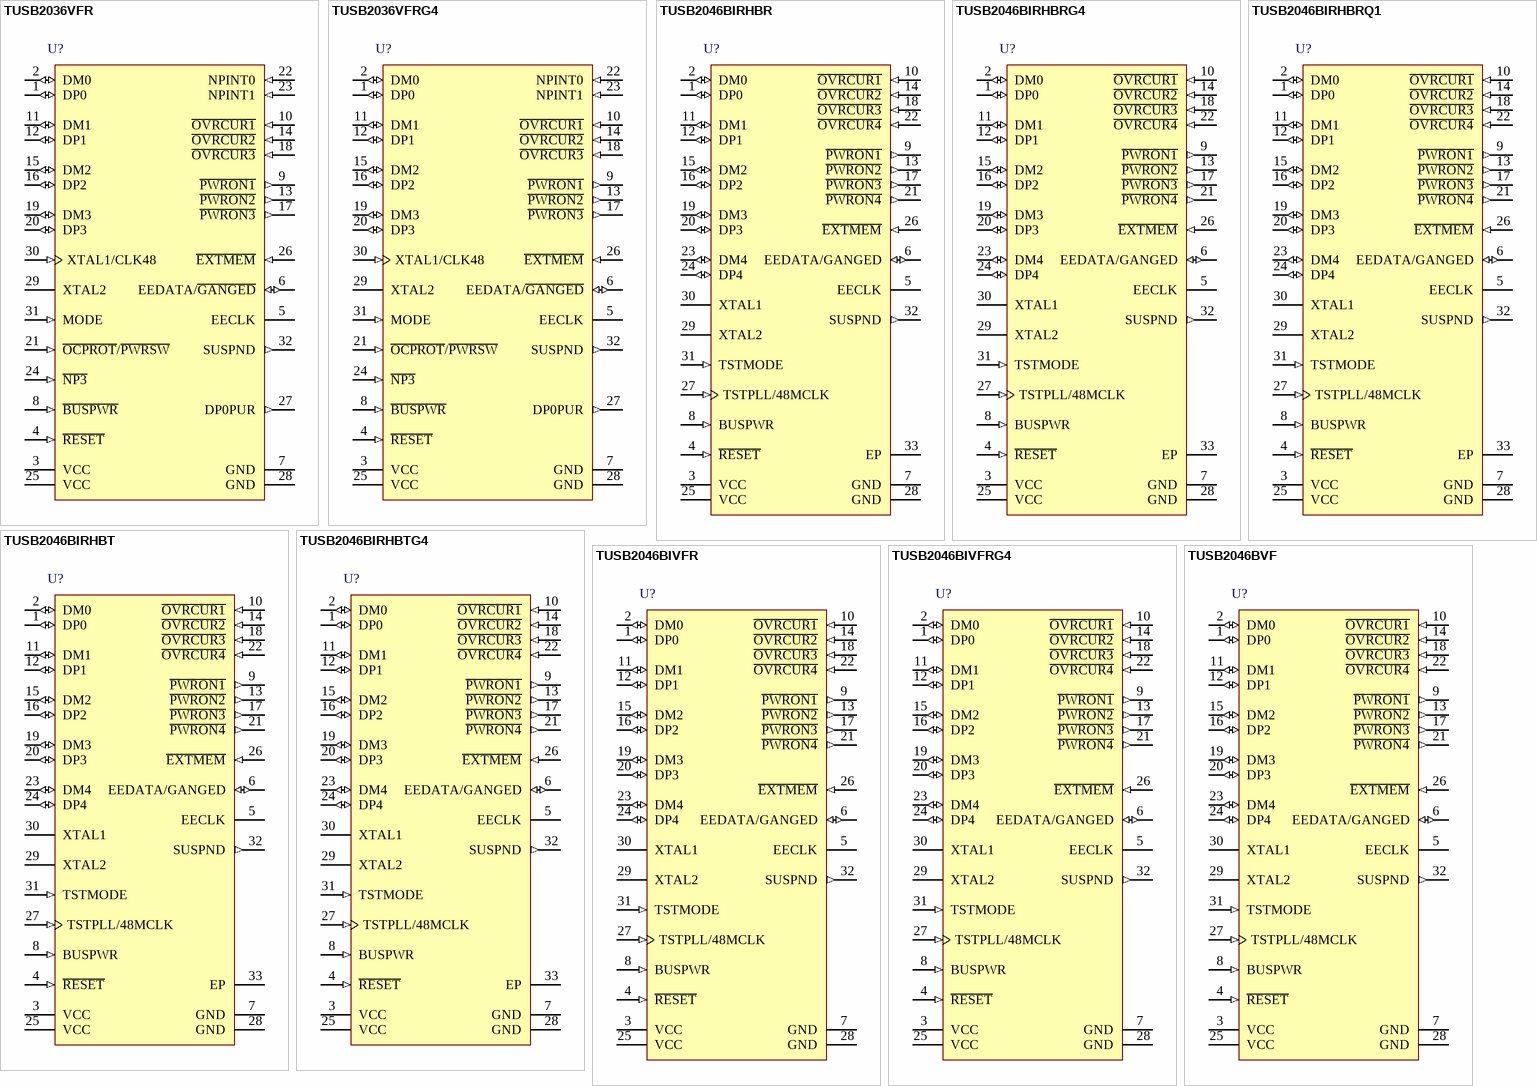
[diagram p2: symbols TUSB2036VFR to TUSB2046BVF]

## TUSB2036VFR
designator U?
2 / 3-Port Hub for USB with Optional Serial EEPROM Interface, 3.3V, 0 to 70 degC, 32-Pin LQFP (VF), Green (RoHS & no Sb/Br); PartNumber: TUSB2036VFR; Manufacturer: Texas Instruments; SubFamily: USB Hub Controller; USB Speed: Full; USB Full Speed: True; Supply Voltage(s)(V): 3.3; DatasheetVersion: SLLS372E; PackageVersion: revD, Apr-2000; PackageReference: VF32; PackageDescription: 32-Pin Plastic Quad Flatpack, 7 x 7 mm Body, 0.8 mm Pitch; Mounting Technology: Surface Mount; Eco-Plan: Green (RoHS & no Sb/Br); Integrated MCU Architecture: N/A; ComponentLink1Description: Datasheet; ComponentLink1URL: http://www.ti.com/general/docs/lit/getliterature.tsp?genericPartNumber=TUSB2036&fileType=pdf; ComponentLink2Description: Package Specification; ComponentLink2URL: http://www.ti.com/litv/pdf/mtqf002b
footprint VF32_N (Thin QFP, 32-Leads, Body 7x7mm, Pitch 0.8mm, IPC Medium Density)
footprint VF32_L (Thin QFP, 32-Leads, Body 7x7mm, Pitch 0.8mm, IPC High Density)
footprint VF32_M (Thin QFP, 32-Leads, Body 7x7mm, Pitch 0.8mm, IPC Low Density)
pins: 1 DP0 (io) "Root port USB differential data plus. DP0 paired with DM0 constitutes the upstream USB port.", 2 DM0 (io) "Root port USB differential data minus. DM0 paired with DP0 constitutes the upstream USB port.", 3 VCC (power) "3.3-V supply voltage", 4 ~{RESET} (in) "R\E\S\E\T\ is an active low TTL input with hysteresis and must be asserted at power up. When R\E\S\E\T\ is asserted, all logic is initialized. Generally, a reset with a pulse width between 100 us and 1 ms is recommended (See Datasheet)", 5 EECLK (hiz) "EEPROM serial clock. When EXTMEM is high, the EEPROM interface is disabled. The EECLK terminal is disabled and must be left floating (unconnected). When EXTMEM is low, EECLK acts as a 3-state serial clock output to the (See Datasheet)", 6 EEDATA/~{GANGED} (io) "EEPROM serial data/power-management mode indicator. When E\X\T\M\E\M\ is high, EEDATA/G\A\N\G\E\D\ selects between ganged or per-port power overcurrent detection for the downstream ports. When E\X\T\M\E\M\ is (See Datasheet)", 7 GND (power) "GND terminals must be tied to ground for proper operation", 8 ~{BUSPWR} (in) "Power source indicator. B\U\S\P\W\R\ is an active-low input that indicates whether the downstream ports source their power from the USB cable or a local power supply. For the bus-power mode, this terminal must be pulled low, (See Datasheet)", 9 ~{PWRON1} (out) "Power-on/-off control signals. P\W\R\O\N\1\-P\W\R\O\N\3\ are active low, push-pull outputs that enables the external power switch device. Push-pull outputs eliminate the pullup resistors which open-drain outputs require. (See Datasheet)", 10 ~{OVRCUR1} (in) "Overcurrent input. O\V\R\C\U\R\1\ - O\V\R\C\U\R\3\ are active low. For per-port overcurrent detection, one overcurrent input is available for each of the three downstream ports. In the ganged mode, any O\V\R\C\U\R\ input may (See Datasheet)", 11 DM1 (io) "USB differential data minus. DM1-DM3 paired with DP1-DP3 support up to four downstream USB ports.", 12 DP1 (io) "USB differential data plus. DP1-DP3 paired with DM1-DM3 support up to four downstream USB ports.", 13 ~{PWRON2} (out) "Power-on/-off control signals. P\W\R\O\N\1\-P\W\R\O\N\3\ are active low, push-pull outputs that enables the external power switch device. Push-pull outputs eliminate the pullup resistors which open-drain outputs require. (See Datasheet)", 14 ~{OVRCUR2} (in) "Overcurrent input. O\V\R\C\U\R\1\ - O\V\R\C\U\R\3\ are active low. For per-port overcurrent detection, one overcurrent input is available for each of the three downstream ports. In the ganged mode, any O\V\R\C\U\R\ input may (See Datasheet)", 15 DM2 (io) "USB differential data minus. DM1-DM3 paired with DP1-DP3 support up to four downstream USB ports.", 16 DP2 (io) "USB differential data plus. DP1-DP3 paired with DM1-DM3 support up to four downstream USB ports.", 17 ~{PWRON3} (out) "Power-on/-off control signals. P\W\R\O\N\1\-P\W\R\O\N\3\ are active low, push-pull outputs that enables the external power switch device. Push-pull outputs eliminate the pullup resistors which open-drain outputs require. (See Datasheet)", 18 ~{OVRCUR3} (in) "Overcurrent input. O\V\R\C\U\R\1\ - O\V\R\C\U\R\3\ are active low. For per-port overcurrent detection, one overcurrent input is available for each of the three downstream ports. In the ganged mode, any O\V\R\C\U\R\ input may (See Datasheet)", 19 DM3 (io) "USB differential data minus. DM1-DM3 paired with DP1-DP3 support up to four downstream USB ports.", 20 DP3 (io) "USB differential data plus. DP1-DP3 paired with DM1-DM3 support up to four downstream USB ports.", 21 ~{OCPROT}/~{PWRSW} (in) "Overcurrent Protection for bus-powered hub (active low). /Power Switching for self-powered hub (active low). The terminal has a different meaning for the bus or self-powered hub. If the terminal is logic high the internal (See Datasheet)", 22 NPINT0 (in) "Number of ports internal to hub system, which are permanently attached (see Table 1).", 23 NPINT1 (in) "Number of ports internal to hub system, which are permanently attached (see Table 1).", 24 ~{NP3} (in) "Number of ports is 3. Active low input. A logic 0 configures the system to use 3 ports. A logic 1 configures the system to use 2 ports.", 25 VCC (power) "3.3-V supply voltage", 26 ~{EXTMEM} (in) "When E\X\T\M\E\M\ is high, the serial EEPROM interface of the device is disabled. When E\X\T\M\E\M\ is low, terminals 5 and 6 are configured as the clock and data terminals of the serial EEPROM interface, respectively.", 27 DP0PUR (out) "Pullup resistor connection. When a system reset happens (R\E\S\E\T\ being driven to low, but not USB reset) or any logic level change on B\U\S\P\W\R\ terminal, DP0PUR output is inactive (floating) until the internal counter (See Datasheet)", 28 GND (power) "GND terminals must be tied to ground for proper operation.", 29 XTAL2 "Crystal 2. XTAL2 is a 6-MHz crystal output. This terminal must be left open when using an oscillator", 30 XTAL1/CLK48 (in) "Crystal 1/48-MHz clock input. When MODE is low, XTAL1/CLK48 is a 6-MHz crystal input with 50% duty cycle. An internal APLL generates the 48-MHz and 12-MHz clocks used internally by the ASIC logic. When MODE is (See Datasheet)", 31 MODE (in) "Mode select. When MODE is low, the APLL output clock is selected as the clock source to drive the internal core of the device and 6-MHz crystal or oscillator can be used. When MODE is high, the clock on XTAL1/CLK48 is (See Datasheet)", 32 SUSPND (out) "Suspend status. SUSPND is an active high output available for external logic power-down operations. During the suspend mode, SUSPND is high. SUSPND is low for normal operation."

## TUSB2036VFRG4
designator U?
2 / 3-Port Hub for USB with Optional Serial EEPROM Interface, 3.3V, 0 to 70 degC, 32-Pin LQFP (VF), Green (RoHS & no Sb/Br); PartNumber: TUSB2036VFRG4; Manufacturer: Texas Instruments; SubFamily: USB Hub Controller; USB Speed: Full; USB Full Speed: True; Supply Voltage(s)(V): 3.3; DatasheetVersion: SLLS372E; PackageVersion: revD, Apr-2000; PackageReference: VF32; PackageDescription: 32-Pin Plastic Quad Flatpack, 7 x 7 mm Body, 0.8 mm Pitch; Mounting Technology: Surface Mount; Eco-Plan: Green (RoHS & no Sb/Br); Integrated MCU Architecture: N/A; ComponentLink1Description: Datasheet; ComponentLink1URL: http://www.ti.com/general/docs/lit/getliterature.tsp?genericPartNumber=TUSB2036&fileType=pdf; ComponentLink2Description: Package Specification; ComponentLink2URL: http://www.ti.com/litv/pdf/mtqf002b
footprint VF32_N (Thin QFP, 32-Leads, Body 7x7mm, Pitch 0.8mm, IPC Medium Density)
footprint VF32_L (Thin QFP, 32-Leads, Body 7x7mm, Pitch 0.8mm, IPC High Density)
footprint VF32_M (Thin QFP, 32-Leads, Body 7x7mm, Pitch 0.8mm, IPC Low Density)
pins: 1 DP0 (io) "Root port USB differential data plus. DP0 paired with DM0 constitutes the upstream USB port.", 2 DM0 (io) "Root port USB differential data minus. DM0 paired with DP0 constitutes the upstream USB port.", 3 VCC (power) "3.3-V supply voltage", 4 ~{RESET} (in) "R\E\S\E\T\ is an active low TTL input with hysteresis and must be asserted at power up. When R\E\S\E\T\ is asserted, all logic is initialized. Generally, a reset with a pulse width between 100 us and 1 ms is recommended (See Datasheet)", 5 EECLK (hiz) "EEPROM serial clock. When EXTMEM is high, the EEPROM interface is disabled. The EECLK terminal is disabled and must be left floating (unconnected). When EXTMEM is low, EECLK acts as a 3-state serial clock output to the (See Datasheet)", 6 EEDATA/~{GANGED} (io) "EEPROM serial data/power-management mode indicator. When E\X\T\M\E\M\ is high, EEDATA/G\A\N\G\E\D\ selects between ganged or per-port power overcurrent detection for the downstream ports. When E\X\T\M\E\M\ is (See Datasheet)", 7 GND (power) "GND terminals must be tied to ground for proper operation", 8 ~{BUSPWR} (in) "Power source indicator. B\U\S\P\W\R\ is an active-low input that indicates whether the downstream ports source their power from the USB cable or a local power supply. For the bus-power mode, this terminal must be pulled low, (See Datasheet)", 9 ~{PWRON1} (out) "Power-on/-off control signals. P\W\R\O\N\1\-P\W\R\O\N\3\ are active low, push-pull outputs that enables the external power switch device. Push-pull outputs eliminate the pullup resistors which open-drain outputs require. (See Datasheet)", 10 ~{OVRCUR1} (in) "Overcurrent input. O\V\R\C\U\R\1\ - O\V\R\C\U\R\3\ are active low. For per-port overcurrent detection, one overcurrent input is available for each of the three downstream ports. In the ganged mode, any O\V\R\C\U\R\ input may (See Datasheet)", 11 DM1 (io) "USB differential data minus. DM1-DM3 paired with DP1-DP3 support up to four downstream USB ports.", 12 DP1 (io) "USB differential data plus. DP1-DP3 paired with DM1-DM3 support up to four downstream USB ports.", 13 ~{PWRON2} (out) "Power-on/-off control signals. P\W\R\O\N\1\-P\W\R\O\N\3\ are active low, push-pull outputs that enables the external power switch device. Push-pull outputs eliminate the pullup resistors which open-drain outputs require. (See Datasheet)", 14 ~{OVRCUR2} (in) "Overcurrent input. O\V\R\C\U\R\1\ - O\V\R\C\U\R\3\ are active low. For per-port overcurrent detection, one overcurrent input is available for each of the three downstream ports. In the ganged mode, any O\V\R\C\U\R\ input may (See Datasheet)", 15 DM2 (io) "USB differential data minus. DM1-DM3 paired with DP1-DP3 support up to four downstream USB ports.", 16 DP2 (io) "USB differential data plus. DP1-DP3 paired with DM1-DM3 support up to four downstream USB ports.", 17 ~{PWRON3} (out) "Power-on/-off control signals. P\W\R\O\N\1\-P\W\R\O\N\3\ are active low, push-pull outputs that enables the external power switch device. Push-pull outputs eliminate the pullup resistors which open-drain outputs require. (See Datasheet)", 18 ~{OVRCUR3} (in) "Overcurrent input. O\V\R\C\U\R\1\ - O\V\R\C\U\R\3\ are active low. For per-port overcurrent detection, one overcurrent input is available for each of the three downstream ports. In the ganged mode, any O\V\R\C\U\R\ input may (See Datasheet)", 19 DM3 (io) "USB differential data minus. DM1-DM3 paired with DP1-DP3 support up to four downstream USB ports.", 20 DP3 (io) "USB differential data plus. DP1-DP3 paired with DM1-DM3 support up to four downstream USB ports.", 21 ~{OCPROT}/~{PWRSW} (in) "Overcurrent Protection for bus-powered hub (active low). /Power Switching for self-powered hub (active low). The terminal has a different meaning for the bus or self-powered hub. If the terminal is logic high the internal (See Datasheet)", 22 NPINT0 (in) "Number of ports internal to hub system, which are permanently attached (see Table 1).", 23 NPINT1 (in) "Number of ports internal to hub system, which are permanently attached (see Table 1).", 24 ~{NP3} (in) "Number of ports is 3. Active low input. A logic 0 configures the system to use 3 ports. A logic 1 configures the system to use 2 ports.", 25 VCC (power) "3.3-V supply voltage", 26 ~{EXTMEM} (in) "When E\X\T\M\E\M\ is high, the serial EEPROM interface of the device is disabled. When E\X\T\M\E\M\ is low, terminals 5 and 6 are configured as the clock and data terminals of the serial EEPROM interface, respectively.", 27 DP0PUR (out) "Pullup resistor connection. When a system reset happens (R\E\S\E\T\ being driven to low, but not USB reset) or any logic level change on B\U\S\P\W\R\ terminal, DP0PUR output is inactive (floating) until the internal counter (See Datasheet)", 28 GND (power) "GND terminals must be tied to ground for proper operation.", 29 XTAL2 "Crystal 2. XTAL2 is a 6-MHz crystal output. This terminal must be left open when using an oscillator", 30 XTAL1/CLK48 (in) "Crystal 1/48-MHz clock input. When MODE is low, XTAL1/CLK48 is a 6-MHz crystal input with 50% duty cycle. An internal APLL generates the 48-MHz and 12-MHz clocks used internally by the ASIC logic. When MODE is (See Datasheet)", 31 MODE (in) "Mode select. When MODE is low, the APLL output clock is selected as the clock source to drive the internal core of the device and 6-MHz crystal or oscillator can be used. When MODE is high, the clock on XTAL1/CLK48 is (See Datasheet)", 32 SUSPND (out) "Suspend status. SUSPND is an active high output available for external logic power-down operations. During the suspend mode, SUSPND is high. SUSPND is low for normal operation."